# Altium schematic symbol library ESD_TVS.SchLib: 2 symbols
Pins are listed as number, name and electrical type; pins without a type are passive.

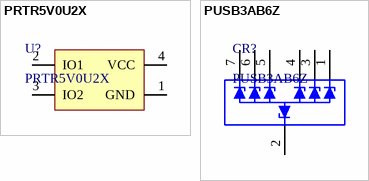
[diagram p0: symbols PRTR5V0U2X to PUSB3AB6Z]

## PRTR5V0U2X
designator U?
超低电容双轨至轨ESD保护二极管; Revised By: Z_xiao; ComponentLink1Description: Datasheet
footprint SOT143B
pins: 1 GND, 2 IO1, 3 IO2, 4 VCC

## PUSB3AB6Z
designator CR?
ESD protection for ultra high-speed interfaces; Mfr_Name: Nexperia; Type: DEV; Revised By: Z_xiao; Copyright: Copyright (C) 2022 Ultra Librarian. All rights reserved.; Manufacturer_Part_Number: PUSB3AB6Z; RefDes: RefDes; ComponentLink1Description: Datasheet; ComponentLink1URL: https://assets.nexperia.cn/documents/data-sheet/PUSB3AB6.pdf
footprint PUSB3AB6Z_NEX
footprint PUSB3AB6Z_NEX-L
footprint PUSB3AB6Z_NEX-M
pins: 1, 2, 3, 4, 5, 6, 7